# Altium footprint library a3.PcbLib: 56 footprints (part 1 of 4)
Each footprint in its own frame and in the unit in brackets; x right, y up, seen from the top. Pads: shape width x height; smd on the part's side, far side on the other; paste and mask are expansions set on the pad; w line width, h text height; cw(c..) or ccw(c..) is an arc to the next point about the centre after c.
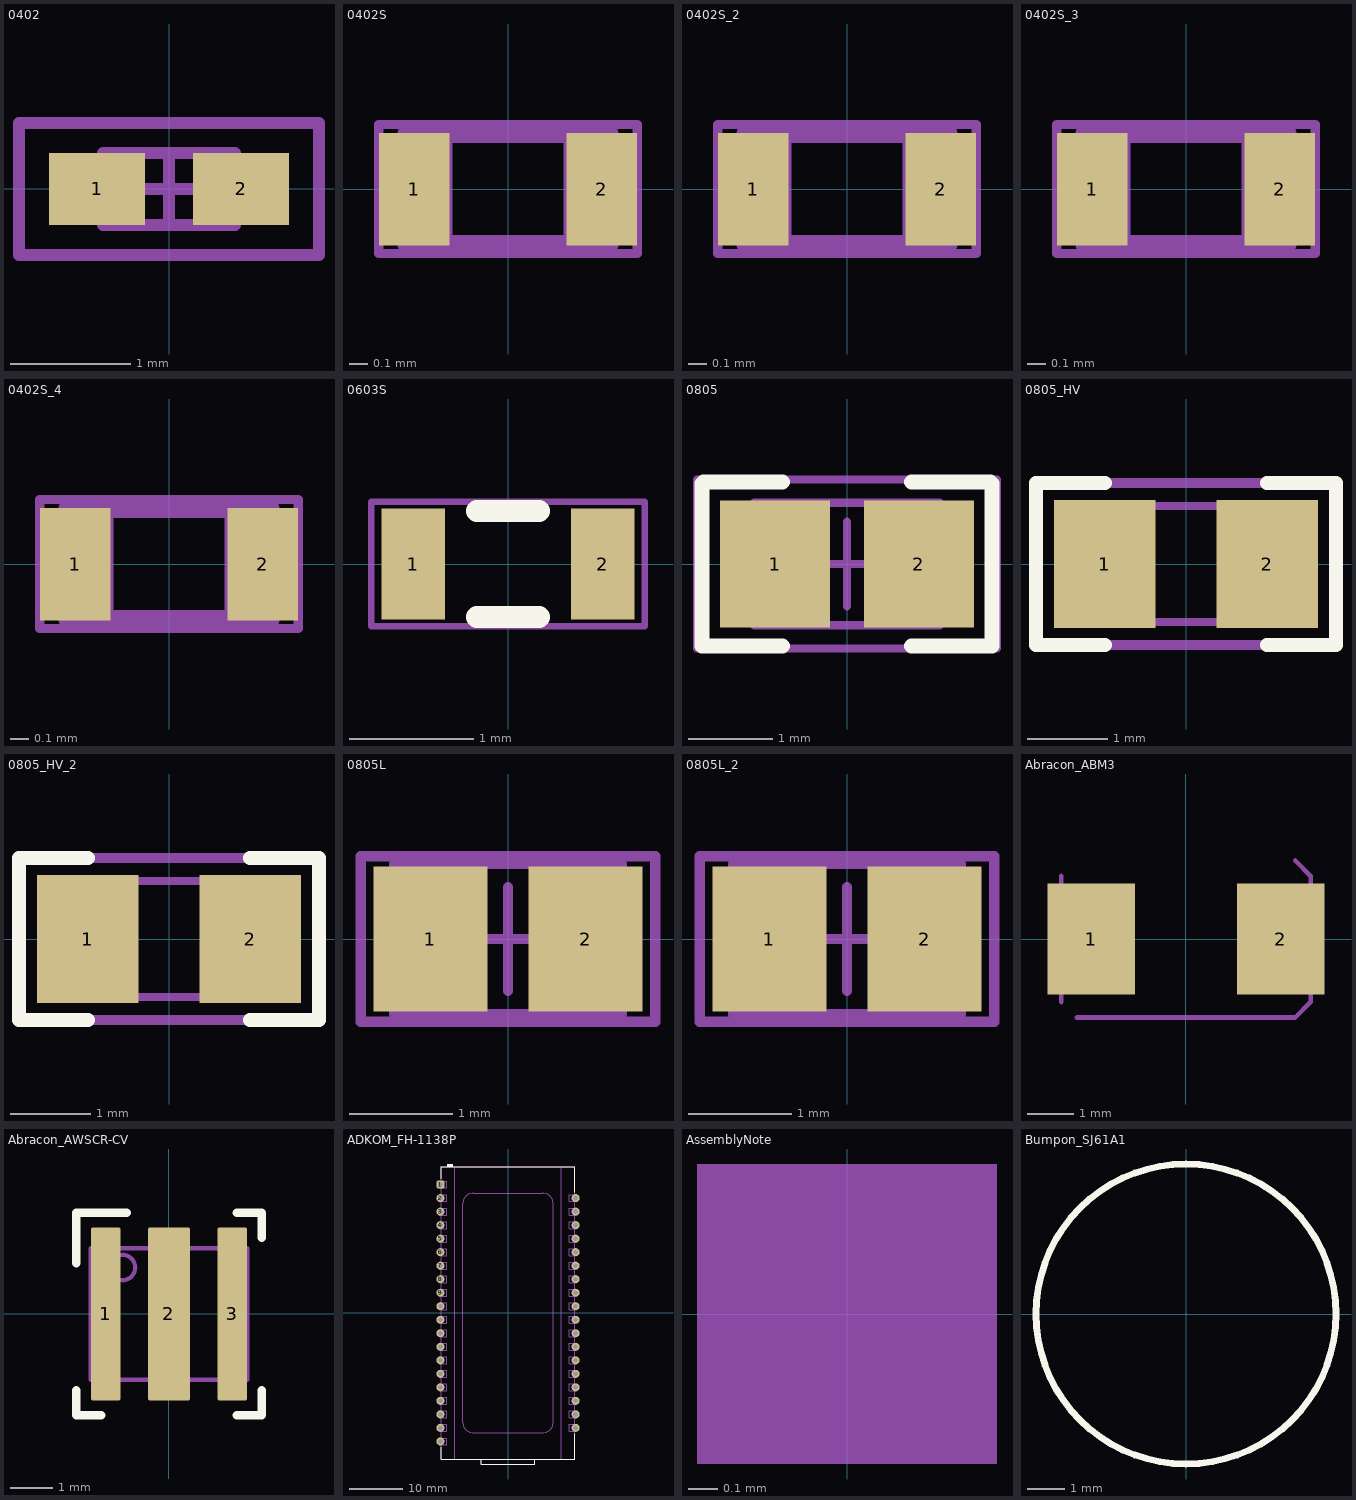
[diagram p0: the footprints below, top view; thin cyan lines are the x and y axes]

## 0402 [mm] "0402 from SM-752 data"
height 0.6
pads (2):
  rect 0.8x0.6 smd: 1(-0.6,0) 2(0.6,0)
Mechanical 5:
  lines w0.1: -1.25,-0.55 1.25,-0.55 1.25,0.55 -1.25,0.55 -1.25,-0.55
  text ".Designator" at -1.117,-0.305 h0.61
Mechanical 13:
  lines w0.1: -0.35,-0.3 -0.35,0.3 ; 0.35,-0.3 0.35,0.3 ; -0.55,-0.3 -0.55,0.3 0.55,0.3 0.55,-0.3 -0.55,-0.3
Mechanical 15:
  lines w0.1: -0.3,0 0.3,0 ; 0,-0.3 0,0.3 ; -1.25,-0.55 -1.25,0.55 1.25,0.55 1.25,-0.55 -1.25,-0.55
3D body: height 0.6, standoff 0, extent -0.549,-0.299 -0.351,0.299
3D body: height 0.6, standoff 0, extent -0.349,-0.299 0.349,0.299
3D body: height 0.6, standoff 0, extent 0.351,-0.299 0.549,0.299

## 0402S [mil] "Based on C0402S footprint from PADS legacy"
height 23.62
pads (2):
  rect 15x24 smd: 1(-20,0) 2(20,0)
Mechanical 5:
  lines w1.97: -27.56,-13.78 27.56,-13.78 27.56,13.78 -27.56,13.78 -27.56,-13.78
  text ".Designator" at 20,5 h12
Mechanical 13:
  lines w3.94: -13.78,-11.81 -13.78,11.81 ; 13.78,-11.81 13.78,11.81 ; -21.65,-11.81 -21.65,11.81 21.65,11.81 21.65,-11.81 -21.65,-11.81
3D body: height 23.62, standoff 0, extent -21.63,-11.79 -13.8,11.79
3D body: height 23.62, standoff 0, extent -13.76,-11.79 13.76,11.79
3D body: height 23.62, standoff 0, extent 13.8,-11.79 21.63,11.79

## 0402S_2 [mil]
pads (2):
  rect 15x24 smd: 1(-20,0) 2(20,0)
Mechanical 5:
  lines w1.97: -27.56,-13.78 27.56,-13.78 27.56,13.78 -27.56,13.78 -27.56,-13.78
  text ".Designator" at -21.65,-5.91 h15
Mechanical 13:
  lines w3.94: -13.78,-11.81 -13.78,11.81 ; 13.78,-11.81 13.78,11.81 ; -21.65,-11.81 -21.65,11.81 21.65,11.81 21.65,-11.81 -21.65,-11.81
3D body: height 23.62, standoff 0, extent -21.63,-11.79 -13.8,11.79
3D body: height 23.62, standoff 0, extent -13.76,-11.79 13.76,11.79
3D body: height 23.62, standoff 0, extent 13.8,-11.79 21.63,11.79

## 0402S_3 [mil]
pads (2):
  rect 15x24 smd: 1(-20,0) 2(20,0)
Mechanical 5:
  lines w1.97: -27.56,-13.78 -27.56,13.78 27.56,13.78 27.56,-13.78 -27.56,-13.78
  text ".Designator" at 21.65,5 h15
Mechanical 13:
  lines w3.94: -13.78,-11.81 -13.78,11.81 ; 13.78,-11.81 13.78,11.81 ; -21.65,-11.81 21.65,-11.81 21.65,11.81 -21.65,11.81 -21.65,-11.81
3D body: height 23.62, standoff 0, extent 13.8,-11.79 21.63,11.79
3D body: height 23.62, standoff 0, extent -13.76,-11.79 13.76,11.79
3D body: height 23.62, standoff 0, extent -21.63,-11.79 -13.8,11.79

## 0402S_4 [mil]
pads (2):
  rect 15x24 smd: 1(-20,0) 2(20,0)
Mechanical 5:
  lines w1.97: -27.56,-13.78 27.56,-13.78 27.56,13.78 -27.56,13.78 -27.56,-13.78
  text ".Designator" at -21.65,-5.91 h12
Mechanical 13:
  lines w3.94: -13.78,-11.81 -13.78,11.81 ; 13.78,-11.81 13.78,11.81 ; -21.65,-11.81 -21.65,11.81 21.65,11.81 21.65,-11.81 -21.65,-11.81
3D body: height 23.62, standoff 0, extent -21.63,-11.79 -13.8,11.79
3D body: height 23.62, standoff 0, extent -13.76,-11.79 13.76,11.79
3D body: height 23.62, standoff 0, extent 13.8,-11.79 21.63,11.79

## 0603S [mil]
height 39.37
pads (2):
  rect 20x35 smd: 1(-30,0) 2(30,0)
Top Overlay:
  lines w7: -9.84,-16.73 9.84,-16.73 ; -9.84,16.73 9.84,16.73
Mechanical 5:
  lines w1.97: -43.31,-19.68 43.31,-19.68 43.31,19.68 -43.31,19.68 -43.31,-19.68
  text ".Designator" at -33.39,-10 h15
3D body: height 39.37, standoff 0, extent -34.43,-18.68 -21.67,18.68
3D body: height 39.37, standoff 0, extent -21.63,-18.68 21.63,18.68
3D body: height 39.37, standoff 0, extent 21.67,-18.68 34.43,18.68

## 0805 [mm] "0805 from SM-752 data"
height 1.45
pads (2):
  rect 1.3x1.5 smd: 1(-0.85,0) 2(0.85,0)
Top Overlay:
  lines w0.178: -0.762,-0.968 -1.717,-0.968 -1.717,0.95 -1.699,0.968 -0.762,0.968 ; 0.762,-0.968 1.717,-0.968 1.717,0.95 1.699,0.968 0.762,0.968
Mechanical 5:
  lines w0.1: -1.775,-1 1.775,-1 1.775,1 -1.775,1 -1.775,-1
  text ".Designator" at 1.1,0.381 h0.64
Mechanical 13:
  lines w0.1: -0.65,-0.725 -0.65,0.725 ; 0.65,-0.725 0.65,0.725 ; -1.1,-0.725 1.1,-0.725 1.1,0.725 -1.1,0.725 -1.1,-0.725
Mechanical 15:
  lines w0.1: -0.5,0 0.5,0 ; 0,-0.5 0,0.5 ; -1.775,-1 1.775,-1 1.775,1 -1.775,1 -1.775,-1
3D body: height 1.45, standoff 0, extent -1.099,-0.724 -0.651,0.724
3D body: height 1.45, standoff 0, extent -0.649,-0.724 0.649,0.724
3D body: height 1.45, standoff 0, extent 0.651,-0.724 1.099,0.724

## 0805_HV [mil] "0805 with 30mil clearance between pads"
height 57.09
pads (2):
  rect 50x63 smd: 1(-40,0) 2(40,0)
Top Overlay:
  lines w7: -40,-40 -74,-40 -74,0 -74,40 -40,40 ; 40,-40 74,-40 74,0 74,40 40,40
Mechanical 5:
  lines w5: -74,-40 -74,40 74,40 74,-40 -74,-40
  text ".Designator" at 25.59,10 h25
Mechanical 13:
  lines w3.94: -25.59,-28.54 -25.59,28.54 ; 25.59,-28.54 25.59,28.54 ; -43.31,-28.54 -43.31,28.54 43.31,28.54 43.31,-28.54 -43.31,-28.54
3D body: height 57.09, standoff 0, extent 25.61,-28.52 43.29,28.52
3D body: height 57.09, standoff 0, extent -25.57,-28.52 25.57,28.52
3D body: height 57.09, standoff 0, extent -43.29,-28.52 -25.61,28.52

## 0805_HV_2 [mil]
pads (2):
  rect 50x63 smd: 1(-40,0) 2(40,0)
Top Overlay:
  lines w7: -40,-40 -74,-40 -74,0 -74,40 -40,40 ; 40,-40 74,-40 74,0 74,40 40,40
Mechanical 5:
  lines w5: -74,-40 74,-40 74,40 -74,40 -74,-40
  text ".Designator" at -15,-10 h25
Mechanical 13:
  lines w3.94: -25.59,-28.54 -25.59,28.54 ; 25.59,-28.54 25.59,28.54 ; -43.31,-28.54 43.31,-28.54 43.31,28.54 -43.31,28.54 -43.31,-28.54
3D body: height 57.09, standoff 0, extent -43.29,-28.52 -25.61,28.52
3D body: height 57.09, standoff 0, extent -25.57,-28.52 25.57,28.52
3D body: height 57.09, standoff 0, extent 25.61,-28.52 43.29,28.52

## 0805L [mm] "0805 from SM-752 data"
height 1.45
pads (2):
  rect 1.1x1.4 smd: 1(-0.75,0) 2(0.75,0)
Mechanical 5:
  lines w0.1: -1.425,-0.8 -1.425,0.8 1.425,0.8 1.425,-0.8 -1.425,-0.8
  text ".Designator" at 0.65,0.381 h0.64
Mechanical 13:
  lines w0.1: -0.65,-0.725 -0.65,0.725 ; 0.65,-0.725 0.65,0.725 ; -1.1,-0.725 1.1,-0.725 1.1,0.725 -1.1,0.725 -1.1,-0.725
Mechanical 15:
  lines w0.1: -0.5,0 0.5,0 ; 0,-0.5 0,0.5 ; -1.425,-0.8 1.425,-0.8 1.425,0.8 -1.425,0.8 -1.425,-0.8
3D body: height 1.45, standoff 0, extent -1.099,-0.724 -0.651,0.724
3D body: height 1.45, standoff 0, extent -0.649,-0.724 0.649,0.724
3D body: height 1.45, standoff 0, extent 0.651,-0.724 1.099,0.724

## 0805L_2 [mm]
pads (2):
  rect 1.1x1.4 smd: 1(-0.75,0) 2(0.75,0)
Mechanical 5:
  lines w0.1: -1.425,-0.8 -1.425,0.8 1.425,0.8 1.425,-0.8 -1.425,-0.8
  text ".Designator" at 1.016,0.381 h0.64
Mechanical 13:
  lines w0.1: -0.65,-0.725 -0.65,0.725 ; 0.65,-0.725 0.65,0.725 ; -1.1,-0.725 1.1,-0.725 1.1,0.725 -1.1,0.725 -1.1,-0.725
Mechanical 15:
  lines w0.1: -0.5,0 0.5,0 ; 0,-0.5 0,0.5 ; -1.425,-0.8 1.425,-0.8 1.425,0.8 -1.425,0.8 -1.425,-0.8
3D body: height 1.45, standoff 0, extent -1.099,-0.724 -0.651,0.724
3D body: height 1.45, standoff 0, extent -0.649,-0.724 0.649,0.724
3D body: height 1.45, standoff 0, extent 0.651,-0.724 1.099,0.724

## Abracon_ABM3 [mm] "Abracon recommended land pattern 12.28.10"
height 1.3
pads (2):
  rect 1.9x2.4 smd: 1(-2.05,0) 2(2.05,0)
Mechanical 5:
  lines w0.1: -2.7,-1.364 -2.7,1.364 ; -2.364,-1.7 2.364,-1.7 2.7,-1.364 2.7,1.364 2.364,1.7
  text ".Designator" at -1.778,-0.508 h1.02
3D body "Abracon_ABM3.stp": height 1.3, standoff 0, extent -2.597,-1.698 2.603,1.702

## Abracon_AWSCR-CV [mm] "SMD, 3-Leads, Body 3.7x3.1mm, Pitch 1.5mm"
height 1.2
pads (3):
  rrect14% 0.7x4.1 smd: 1(-1.5,0) 3(1.5,0)
  rrect10% 1x4.1 smd: 2(0,0)
Top Overlay:
  lines w0.2: -2.2,-1.8 -2.2,-2.4 -1.6,-2.4 ; -2.2,1.2 -2.2,2.4 -1,2.4 ; 1.6,-2.4 2.2,-2.4 2.2,-1.8 ; 1.6,2.4 2.2,2.4 2.2,1.8
Mechanical 5:
  circle w0.1: c-1.1,1.1 r0.3
  lines w0.1: -1.85,-1.555 1.85,-1.555 1.85,1.555 -1.85,1.555 -1.85,-1.555
  text ".Designator" at -1.7,-0.5 h1.85
3D body: height 1.21, standoff 1.2, extent -1.399,0.801 -0.801,1.399
3D body "AWSCR-CV.stp": height 1.21, standoff 0, extent -1.85,-1.555 1.85,1.555

## ADKOM_FH-1138P [mm] "TH, 38-Leads, Body 56x25.1mm"
height 3.1
pads (38):
  rrect50% 1.5x1.5 hole 0.9: 1(-12.7,24.13)
  round 1.5 hole 0.9: 2(-12.7,21.59) 3(-12.7,19.05) 4(-12.7,16.51) 5(-12.7,13.97) 6(-12.7,11.43) 7(-12.7,8.89) 8(-12.7,6.35) 9(-12.7,3.81) 10(-12.7,1.27) 11(-12.7,-1.27) 12(-12.7,-3.81) 13(-12.7,-6.35) 14(-12.7,-8.89) 15(-12.7,-11.43) 16(-12.7,-13.97) 17(-12.7,-16.51) 18(-12.7,-19.05) 19(-12.7,-21.59) 20(-12.7,-24.13) 21(12.7,-21.59) 22(12.7,-19.05) 23(12.7,-16.51) 24(12.7,-13.97) 25(12.7,-11.43) 26(12.7,-8.89) 27(12.7,-6.35) 28(12.7,-3.81) 29(12.7,-1.27) 30(12.7,1.27) 31(12.7,3.81) 32(12.7,6.35) 33(12.7,8.89) 34(12.7,11.43) 35(12.7,13.97) 36(12.7,16.51) 37(12.7,19.05) 38(12.7,21.59)
Top Overlay:
  rectangle: -11.5,27.5 -10.3,28
  lines w0.2: -12.55,-25.2 -12.55,-27.5 12.55,-27.5 12.55,-22.7 ; -12.55,25.2 -12.55,27.5 12.55,27.5 12.55,22.7 ; -5,-27.495 -5,-27.5 -5,-28.379 -4.75,-28.379 4.75,-28.379 5,-28.379 5,-27.5
Mechanical 5:
  drawing of 216 lines, arcs and shapes, not listed
  text ".Designator" at -5.3,-0.8 h1.02
3D body "FH-1138P.stp": height 3.1, standoff -6.05, extent -12.85,-28.379 12.85,27.5

## AssemblyNote [mm] "Assembly Note"
Mechanical 5:
  rectangle: -0.508,-0.508 0.508,0.508
  text ".Designator" at -4.191,-0.508 h1.02
  text ".Comment" at 1.143,-0.508 h1.02

## Bumpon_SJ61A1 [mil] "3M Cylindrical Bumpon black"
height 210
pads (1):
  round 1 on Mech3: 0(0,0)
Top Overlay:
  circle w7: c0,0 r156.21
Mechanical 5:
  circle w5: c0,0 r156.21
  text ".Designator" at -60,-20 h40
3D body "SJxxA1.stp": height 200.6, standoff 0.6, extent -155.87,-156 155.88,156